# EAGLE library part LT3081 (library custom)
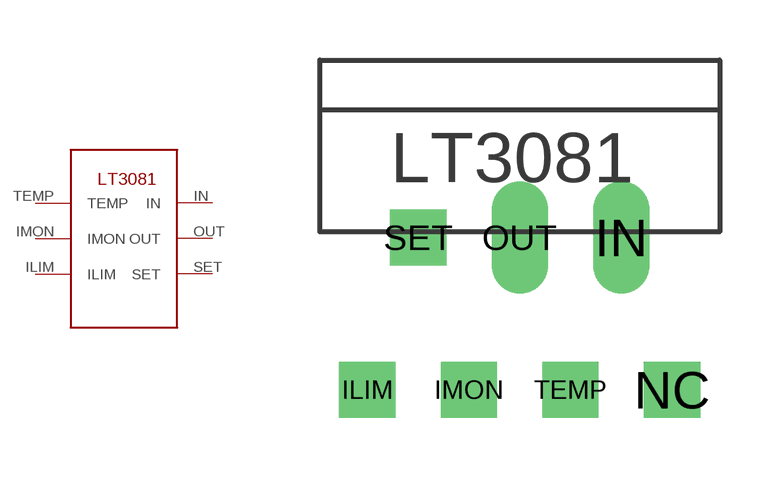
[diagram p0: symbol with the pads of LT3081-T7; footprint LT3081-T7]

Designator prefix -

## LT3081T7-FORMED  [LT3081-T7]
ILIM  ILIM
IMON  IMON
IN  IN
OUT  OUT
SET  SET
TEMP  TEMP

## Footprint LT3081-T7 (pad centres in mm)
drill 0.9 square: ILIM -3.81,-3.81; IMON -1.27,-3.81; NC 3.81,-3.81; SET -2.54,0; TEMP 1.27,-3.81
drill 0.9 long: IN 2.54,0; OUT 0,0